# EAGLE library part BNO055 (library zumo)
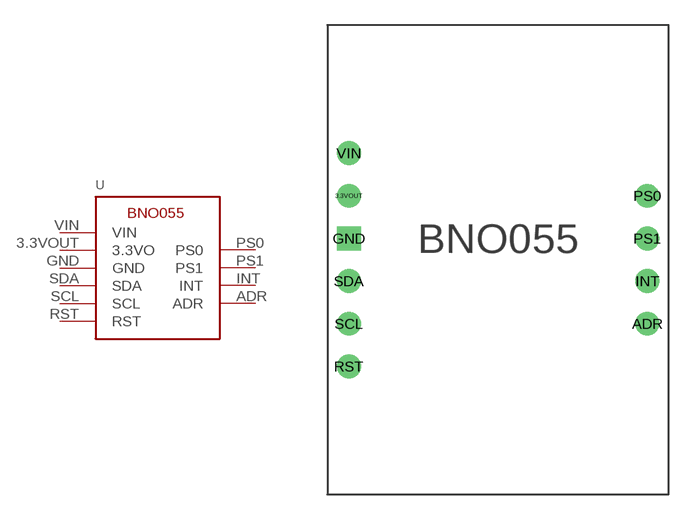
[diagram p3: symbol with the pads of BNO055_BREAKOUT; footprint BNO055_BREAKOUT]

Designator prefix U

## BNO055BREAKOUT  [BNO055_BREAKOUT]
3.3VOUT  3.3VO  pwr
ADR  ADR
GND  GND  pwr
INT  INT
PS0  PS0
PS1  PS1
RST  RST
SCL  SCL
SDA  SDA
VIN  VIN  pwr

## Footprint BNO055_BREAKOUT (pad centres in mm)
drill 0.914: 3.3VOUT 0,10.16; ADR 17.78,2.54; INT 17.78,5.08; PS0 17.78,10.16; PS1 17.78,7.62; RST 0,0; SCL 0,2.54; SDA 0,5.08; VIN 0,12.7
drill 0.914 square: GND 0,7.62